# Altium schematic symbol library 30CPQ150.SchLib: 1 symbol
Pins are listed as number, name and electrical type; pins without a type are passive.

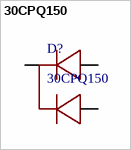
[diagram p0: symbol 30CPQ150]

## 30CPQ150
designator D?
Come catod
footprint TO247-1
footprint TO247-2
footprint TO247-3
pins: 1, 2, 3